# Altium footprint library 元器件.PCBLIB: 210 footprints (part 5 of 14)
Each footprint in its own frame and in the unit in brackets; x right, y up, seen from the top. Pads: shape width x height; smd on the part's side, far side on the other; paste and mask are expansions set on the pad; w line width, h text height; cw(c..) or ccw(c..) is an arc to the next point about the centre after c.
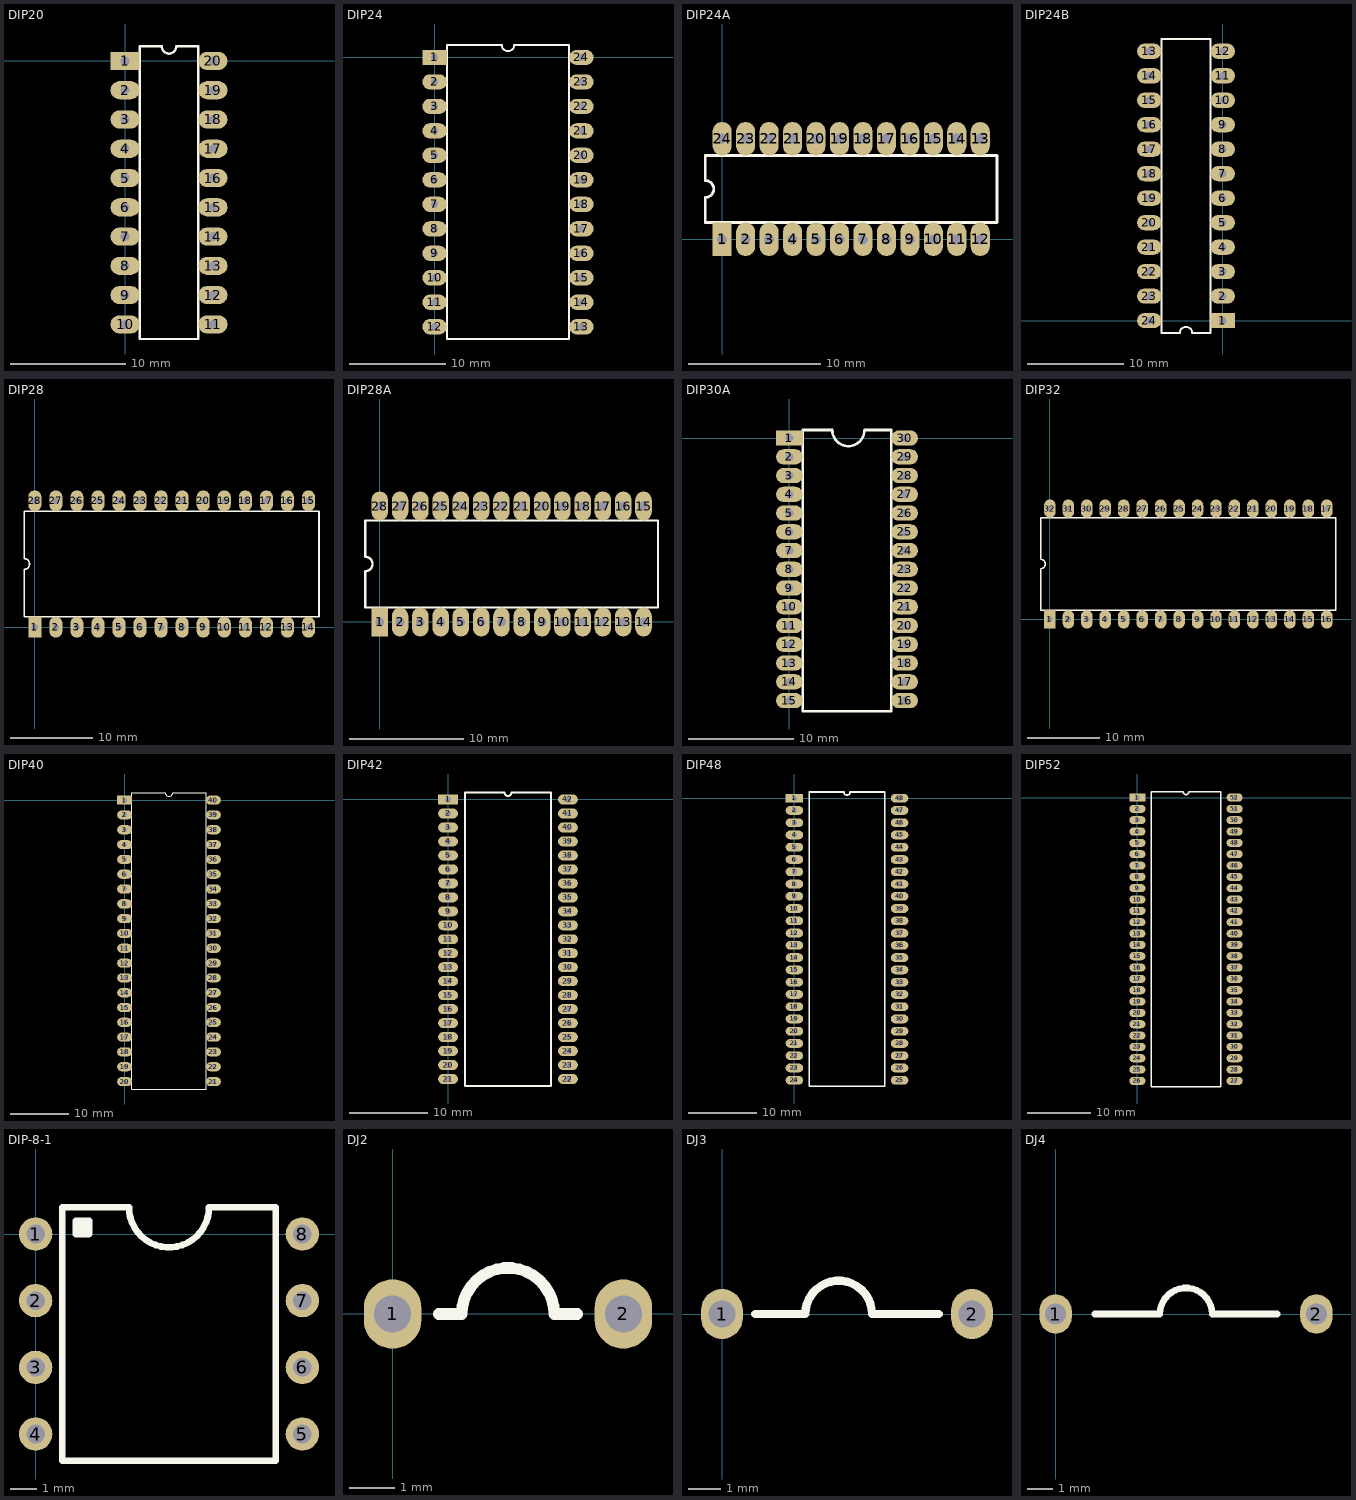
[diagram p4: the footprints below, top view; thin cyan lines are the x and y axes]

## DIP20 [mil]
pads (20):
  rect 100x62 hole 30: 1(0,0)
  oval 100x62 hole 30: 2(0,-100) 3(0,-200) 4(0,-300) 5(0,-400) 6(0,-500) 7(0,-600) 8(0,-700) 9(0,-800) 10(0,-900) 11(300,-900) 12(300,-800) 13(300,-700) 14(300,-600) 15(300,-500) 16(300,-400) 17(300,-300) 18(300,-200) 19(300,-100) 20(300,0)
TopOverlay:
  lines w8: 50,-950 250,-950 250,50 175,50 cw(c150,50) 125,50 50,50 50,-950

## DIP24 [mil]
pads (24):
  rect 100x62 hole 30: 1(0,0)
  oval 100x62 hole 30: 2(0,-100) 3(0,-200) 4(0,-300) 5(0,-400) 6(0,-500) 7(0,-600) 8(0,-700) 9(0,-800) 10(0,-900) 11(0,-1000) 12(0,-1100) 13(600,-1100) 14(600,-1000) 15(600,-900) 16(600,-800) 17(600,-700) 18(600,-600) 19(600,-500) 20(600,-400) 21(600,-300) 22(600,-200) 23(600,-100) 24(600,0)
TopOverlay:
  lines w8: 50,-1150 50,50 275,50 ccw(c300,50) 325,50 550,50 550,-1150 50,-1150

## DIP24A [mil]
pads (24):
  rect 57x100 hole 30: 1(0,0)
  oval 57x100 hole 30: 2(70,0) 3(140,0) 4(210,0) 5(280,0) 6(350,0) 7(420,0) 8(490,0) 9(560,0) 10(630,0) 11(700,0) 12(770,0) 13(770,300) 14(700,300) 15(630,300) 16(560,300) 17(490,300) 18(420,300) 19(350,300) 20(280,300) 21(210,300) 22(140,300) 23(70,300) 24(0,300)
TopOverlay:
  lines w8: -50,50 -50,125 ccw(c-50,150) -50,175 -50,250 820,250 820,50 -50,50

## DIP24B [mil]
pads (24):
  rect 100x62 hole 30: 1(0,0)
  oval 100x62 hole 30: 2(0,100) 3(0,200) 4(0,300) 5(0,400) 6(0,500) 7(0,600) 8(0,700) 9(0,800) 10(0,900) 11(0,1000) 12(0,1100) 13(-300,1100) 14(-300,1000) 15(-300,900) 16(-300,800) 17(-300,700) 18(-300,600) 19(-300,500) 20(-300,400) 21(-300,300) 22(-300,200) 23(-300,100) 24(-300,0)
TopOverlay:
  lines w8: -250,-50 -175,-50 cw(c-150,-50) -125,-50 -50,-50 -50,1150 -250,1150 -250,-50

## DIP28 [mil]
pads (28):
  rect 62x100 hole 30: 1(0,0)
  oval 62x100 hole 30: 2(100,0) 3(200,0) 4(300,0) 5(400,0) 6(500,0) 7(600,0) 8(700,0) 9(800,0) 10(900,0) 11(1000,0) 12(1100,0) 13(1200,0) 14(1300,0) 15(1300,600) 16(1200,600) 17(1100,600) 18(1000,600) 19(900,600) 20(800,600) 21(700,600) 22(600,600) 23(500,600) 24(400,600) 25(300,600) 26(200,600) 27(100,600) 28(0,600)
TopOverlay:
  lines w8: -50,50 1350,50 1350,550 -50,550 -50,325 cw(c-50,300) -50,275 -50,50

## DIP28A [mil]
pads (28):
  rect 57x100 hole 30: 1(0,0)
  oval 57x100 hole 30: 2(70,0) 3(140,0) 4(210,0) 5(280,0) 6(350,0) 7(420,0) 8(490,0) 9(560,0) 10(630,0) 11(700,0) 12(770,0) 13(840,0) 14(910,0) 15(910,400) 16(840,400) 17(770,400) 18(700,400) 19(630,400) 20(560,400) 21(490,400) 22(420,400) 23(350,400) 24(280,400) 25(210,400) 26(140,400) 27(70,400) 28(0,400)
TopOverlay:
  lines w8: -50,50 960,50 960,350 -50,350 -50,225 cw(c-50,200) -50,175 -50,50

## DIP30A [mil]
pads (30):
  rect 100x57 hole 30: 1(0,0)
  oval 100x57 hole 30: 2(0,-70) 3(0,-140) 4(0,-210) 5(0,-280) 6(0,-350) 7(0,-420) 8(0,-490) 9(0,-560) 10(0,-630) 11(0,-700) 12(0,-770) 13(0,-840) 14(0,-910) 15(0,-980) 16(430,-980) 17(430,-910) 18(430,-840) 19(430,-770) 20(430,-700) 21(430,-630) 22(430,-560) 23(430,-490) 24(430,-420) 25(430,-350) 26(430,-280) 27(430,-210) 28(430,-140) 29(430,-70) 30(430,0)
TopOverlay:
  lines w10: 50,-1020 50,30 160,30 ccw(c220,30) 280,30 380,30 380,-1020 50,-1020

## DIP32 [mil]
pads (32):
  rect 62x100 hole 30: 1(0,0)
  oval 62x100 hole 30: 2(100,0) 3(200,0) 4(300,0) 5(400,0) 6(500,0) 7(600,0) 8(700,0) 9(800,0) 10(900,0) 11(1000,0) 12(1100,0) 13(1200,0) 14(1300,0) 15(1400,0) 16(1500,0) 17(1500,600) 18(1400,600) 19(1300,600) 20(1200,600) 21(1100,600) 22(1000,600) 23(900,600) 24(800,600) 25(700,600) 26(600,600) 27(500,600) 28(400,600) 29(300,600) 30(200,600) 31(100,600) 32(0,600)
TopOverlay:
  lines w8: -50,50 1550,50 1550,550 -50,550 -50,325 cw(c-50,300) -50,275 -50,50

## DIP40 [mil]
pads (40):
  rect 100x62 hole 30: 1(0,0)
  oval 100x62 hole 30: 2(0,-100) 3(0,-200) 4(0,-300) 5(0,-400) 6(0,-500) 7(0,-600) 8(0,-700) 9(0,-800) 10(0,-900) 11(0,-1000) 12(0,-1100) 13(0,-1200) 14(0,-1300) 15(0,-1400) 16(0,-1500) 17(0,-1600) 18(0,-1700) 19(0,-1800) 20(0,-1900) 21(600,-1900) 22(600,-1800) 23(600,-1700) 24(600,-1600) 25(600,-1500) 26(600,-1400) 27(600,-1300) 28(600,-1200) 29(600,-1100) 30(600,-1000) 31(600,-900) 32(600,-800) 33(600,-700) 34(600,-600) 35(600,-500) 36(600,-400) 37(600,-300) 38(600,-200) 39(600,-100) 40(600,0)
TopOverlay:
  lines w8: 50,-1950 50,50 275,50 ccw(c300,50) 325,50 550,50 550,-1950 50,-1950

## DIP42 [mil]
pads (42):
  rect 100x50 hole 30: 1(0,0)
  oval 100x50 hole 30: 2(0,-70) 3(0,-140) 4(0,-210) 5(0,-280) 6(0,-350) 7(0,-420) 8(0,-490) 9(0,-560) 10(0,-630) 11(0,-700) 12(0,-770) 13(0,-840) 14(0,-910) 15(0,-980) 16(0,-1050) 17(0,-1120) 18(0,-1190) 19(0,-1260) 20(0,-1330) 21(0,-1400) 22(600,-1400) 23(600,-1330) 24(600,-1260) 25(600,-1190) 26(600,-1120) 27(600,-1050) 28(600,-980) 29(600,-910) 30(600,-840) 31(600,-770) 32(600,-700) 33(600,-630) 34(600,-560) 35(600,-490) 36(600,-420) 37(600,-350) 38(600,-280) 39(600,-210) 40(600,-140) 41(600,-70) 42(600,0)
TopOverlay:
  lines w10: 85,-1435 515,-1435 515,35 317.5,35 cw(c300,35) 282.5,35 85,35 85,-1435

## DIP48 [mil]
pads (48):
  rect 100x50 hole 30: 1(0,0)
  oval 100x50 hole 30: 2(0,-70) 3(0,-140) 4(0,-210) 5(0,-280) 6(0,-350) 7(0,-420) 8(0,-490) 9(0,-560) 10(0,-630) 11(0,-700) 12(0,-770) 13(0,-840) 14(0,-910) 15(0,-980) 16(0,-1050) 17(0,-1120) 18(0,-1190) 19(0,-1260) 20(0,-1330) 21(0,-1400) 22(0,-1470) 23(0,-1540) 24(0,-1610) 25(600,-1610) 26(600,-1540) 27(600,-1470) 28(600,-1400) 29(600,-1330) 30(600,-1260) 31(600,-1190) 32(600,-1120) 33(600,-1050) 34(600,-980) 35(600,-910) 36(600,-840) 37(600,-770) 38(600,-700) 39(600,-630) 40(600,-560) 41(600,-490) 42(600,-420) 43(600,-350) 44(600,-280) 45(600,-210) 46(600,-140) 47(600,-70) 48(600,0)
TopOverlay:
  lines w10: 85,-1645 85,35 282.5,35 ccw(c300,35) 317.5,35 515,35 515,-1645 85,-1645

## DIP52 [mil]
pads (52):
  rect 100x50 hole 30: 1(0,0)
  oval 100x50 hole 30: 2(0,-70) 3(0,-140) 4(0,-210) 5(0,-280) 6(0,-350) 7(0,-420) 8(0,-490) 9(0,-560) 10(0,-630) 11(0,-700) 12(0,-770) 13(0,-840) 14(0,-910) 15(0,-980) 16(0,-1050) 17(0,-1120) 18(0,-1190) 19(0,-1260) 20(0,-1330) 21(0,-1400) 22(0,-1470) 23(0,-1540) 24(0,-1610) 25(0,-1680) 26(0,-1750) 27(600,-1750) 28(600,-1680) 29(600,-1610) 30(600,-1540) 31(600,-1470) 32(600,-1400) 33(600,-1330) 34(600,-1260) 35(600,-1190) 36(600,-1120) 37(600,-1050) 38(600,-980) 39(600,-910) 40(600,-840) 41(600,-770) 42(600,-700) 43(600,-630) 44(600,-560) 45(600,-490) 46(600,-420) 47(600,-350) 48(600,-280) 49(600,-210) 50(600,-140) 51(600,-70) 52(600,0)
TopOverlay:
  lines w10: 85,-1785 515,-1785 515,35 317.5,35 cw(c300,35) 282.5,35 85,35 85,-1785

## DIP-8-1 [mil]
pads (8):
  round 50 hole 28: 1(0,0) 2(0,-100) 3(0,-200) 4(0,-300) 5(400,-300) 6(400,-200) 7(400,-100) 8(400,0)
TopOverlay:
  lines w10: 60,0 60,20 ; 60,0 80,0 ; 60,0 80,20 ; 60,20 80,20 ; 60,20 80,0 ; 80,0 80,20 ; 40,-340 40,40 140,40 ccw(c200,40) 260,40 360,40 360,-340 40,-340

## DJ2 [mil]
pads (2):
  oval 50x60 hole 32: 1(0,0) 2(200,0)
TopOverlay:
  lines w10: 40,0 60,0 cw(c100,0) 140,0 160,0

## DJ3 [mil]
pads (2):
  oval 50x60 hole 32: 1(0,0) 2(300,0)
TopOverlay:
  lines w10: 40,0 100,0 cw(c140,0) 180,0 260,0

## DJ4 [mil]
pads (2):
  oval 50x60 hole 32: 1(0,0) 2(400,0)
TopOverlay:
  lines w10: 60,0 160,0 cw(c200,0) 240,0 340,0